# Altium schematic symbol library Transformators.SchLib: 4 symbols
Pins are listed as number, name and electrical type; pins without a type are passive.

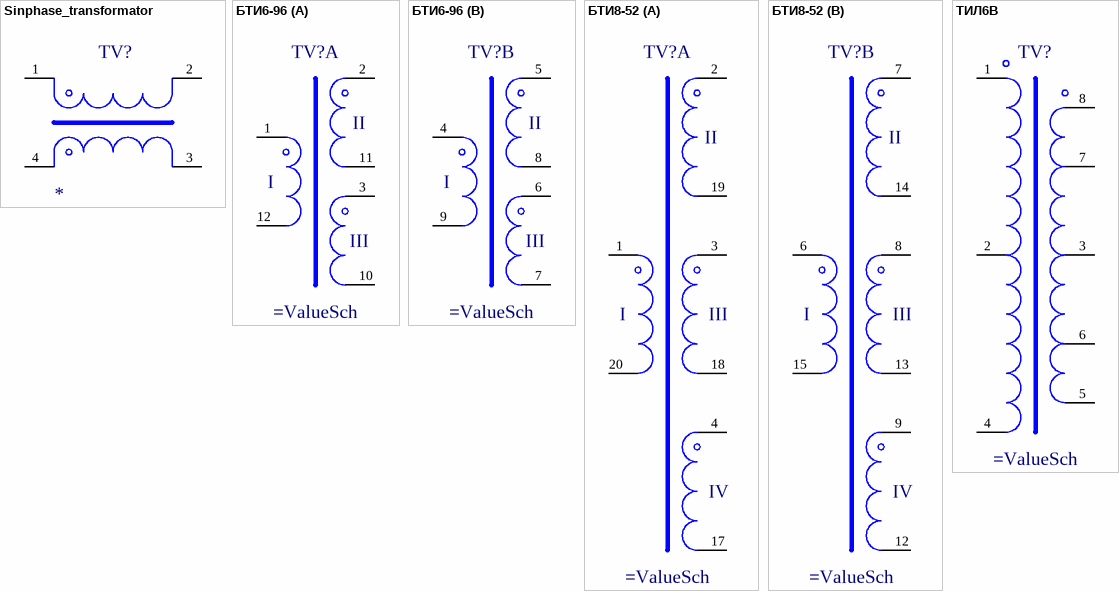
[diagram p0: symbols Sinphase_transformator to ТИЛ6В]

## Sinphase_transformator
designator TV?
Синфазный трансформатор
pins: 1, 2, 3, 4

## БТИ6-96
designator TV?
part A pins: 1, 2, 3, 10, 11, 12
part B pins: 4, 5, 6, 7, 8, 9
part A text: II; I; III
part B text: II; I; III

## БТИ8-52
designator TV?
part A pins: 1, 2, 3, 4, 17, 18, 19, 20
part B pins: 6 1, 7 2, 8 3, 9 4, 12 17, 13 18, 14 19, 15 20
1 alternate drawing of the same symbol
part A text: II; I; III; IV
part B text: II; I; III; IV

## ТИЛ6В
designator TV?
Transformer for MIL-STD1553B
pins: 1, 2, 3, 4, 5, 6, 7, 8